# EAGLE library part HMC218BMS8GE (library HMC218BMS8GEHRH)
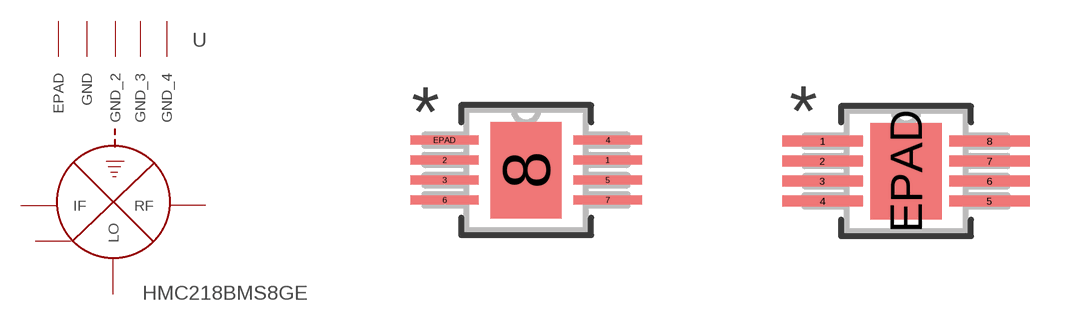
[diagram p0: symbol with the pads of HRH_8_1; footprints HRH_8_1, HRH_8_1-M]

Designator prefix U

## HMC218BMS8GE (MANUFACTURER_PART_NUMBER: HMC218BMS8GE; VENDOR: Analog Devices Inc)  [HRH_8_1]

## HMC218BMS8GEHRH_8_1-M (MANUFACTURER_PART_NUMBER: HMC218BMS8GE; VENDOR: Analog Devices Inc)  [HRH_8_1-M]
1  LO  pas
2  GND_2  pas
3  GND_3  pas
4  NC  nc
5  IF  pas
6  GND_4  pas
7  GND  pas
8  RF  pas
EPAD  EPAD  pas

## HMC218BMS8GEHRH_8_1-L (MANUFACTURER_PART_NUMBER: HMC218BMS8GE; VENDOR: Analog Devices Inc)  [HRH_8_1-L]
Pads as for HRH_8_1-M

## Footprint HRH_8_1 (pad centres in mm)
smd 1.711 x 0.219: 1 2.04,0.25; 2 -2.04,0.25; 3 -2.04,-0.25; 4 2.04,0.75; 5 2.04,-0.25; 6 -2.04,-0.75; 7 2.04,-0.75; EPAD -2.04,0.75
smd 1.78 x 2.41: 8 0,0

## Footprint HRH_8_1-M (pad centres in mm)
smd 2.016 x 0.27: 1 -2.091,0.75; 2 -2.091,0.25; 3 -2.091,-0.25; 4 -2.091,-0.75; 5 2.091,-0.75; 6 2.091,-0.25; 7 2.091,0.25; 8 2.091,0.75
smd 1.78 x 2.41: EPAD 0,0

## Footprint HRH_8_1-L (pad centres in mm)
smd 1.406 x 0.168: 1 -1.989,0.75; 2 -1.989,0.25; 3 -1.989,-0.25; 4 -1.989,-0.75; 5 1.989,-0.75; 6 1.989,-0.25; 7 1.989,0.25; 8 1.989,0.75
smd 1.78 x 2.41: EPAD 0,0